# EAGLE library part HDC2080_HDC2080 (library Mini-Lora_v2_2)
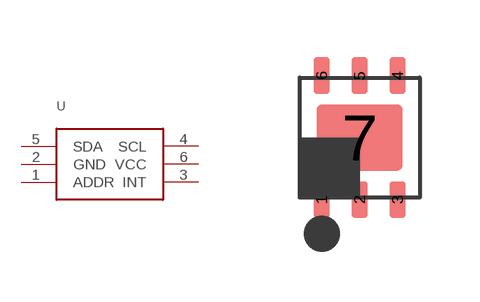
[diagram p8: symbol with the pads of HDC2080_WSON-6; footprint HDC2080_WSON-6]

Designator prefix -

## HDC2080_HDC2080  [HDC2080_WSON-6]
1  ADDR
2  GND
3  INT
4  SCL
5  SDA
6  VCC

## Footprint HDC2080_WSON-6 (pad centres in mm)
smd 0.4 x 0.9: 1 -0.95,-1.55; 2 0,-1.55; 3 0.95,-1.55; 4 0.95,1.55; 5 0,1.55; 6 -0.95,1.55
smd 2.15 x 1.65: 7 0,0